# Altium footprint library CAPS.PcbLib: 166 footprints (part 5 of 11)
Each footprint in its own frame and in the unit in brackets; x right, y up, seen from the top. Pads: shape width x height; smd on the part's side, far side on the other; paste and mask are expansions set on the pad; w line width, h text height; cw(c..) or ccw(c..) is an arc to the next point about the centre after c.
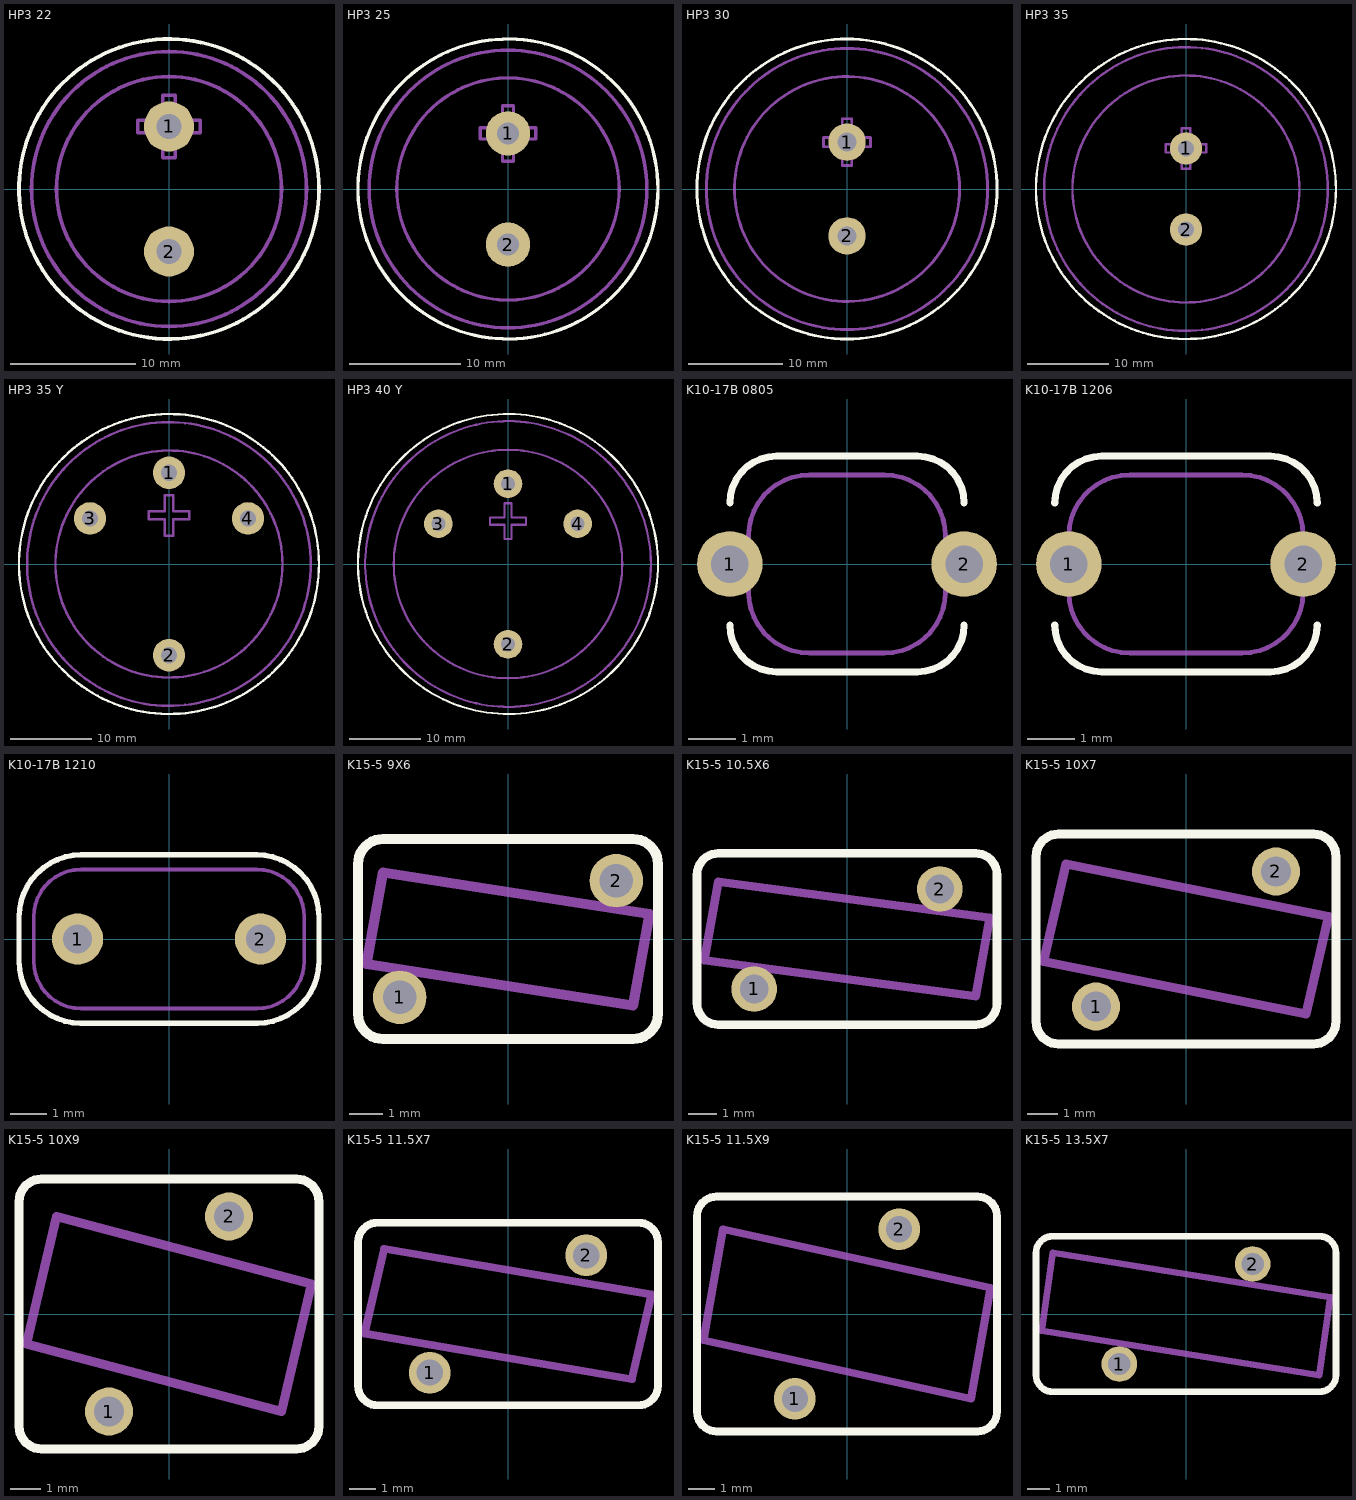
[diagram p4: the footprints below, top view; thin cyan lines are the x and y axes]

## HP3 22 [mm]
pads (2):
  round 4 hole 2: 1(0,5) 2(0,-5)
Top Overlay:
  circle w0.3: c0,0 r12
Mechanical 1:
  circle w0.3: c0,0 r9
  circle w0.3: c0,0 r11
  lines w0.3: -2.5,4.5 -0.5,4.5 -0.5,2.5 0.5,2.5 0.5,4.5 2.5,4.5 2.5,5.5 0.5,5.5 0.5,7.5 -0.5,7.5 -0.5,5.5 -2.5,5.5 -2.5,4.5

## HP3 25 [mm]
pads (2):
  round 4 hole 2: 1(0,5) 2(0,-5)
Top Overlay:
  circle w0.3: c0,0 r13.5
Mechanical 1:
  circle w0.3: c0,0 r10
  circle w0.3: c0,0 r12.5
  lines w0.3: -2.5,4.5 -0.5,4.5 -0.5,2.5 0.5,2.5 0.5,4.5 2.5,4.5 2.5,5.5 0.5,5.5 0.5,7.5 -0.5,7.5 -0.5,5.5 -2.5,5.5 -2.5,4.5

## HP3 30 [mm]
pads (2):
  round 4 hole 2: 1(0,5) 2(0,-5)
Top Overlay:
  circle w0.3: c0,0 r16
Mechanical 1:
  circle w0.3: c0,0 r15
  circle w0.3: c0,0 r12
  lines w0.3: -2.5,4.5 -0.5,4.5 -0.5,2.5 0.5,2.5 0.5,4.5 2.5,4.5 2.5,5.5 0.5,5.5 0.5,7.5 -0.5,7.5 -0.5,5.5 -2.5,5.5 -2.5,4.5

## HP3 35 [mm]
pads (2):
  round 4 hole 2: 1(0,5) 2(0,-5)
Top Overlay:
  circle w0.3: c0,0 r18.5
Mechanical 1:
  circle w0.3: c0,0 r17.5
  circle w0.3: c0,0 r14
  lines w0.3: -2.5,4.5 -0.5,4.5 -0.5,2.5 0.5,2.5 0.5,4.5 2.5,4.5 2.5,5.5 0.5,5.5 0.5,7.5 -0.5,7.5 -0.5,5.5 -2.5,5.5 -2.5,4.5

## HP3 35 Y [mm]
pads (4):
  round 4 hole 2: 1(0,11.25) 2(0,-11.25) 3(-9.743,5.625) 4(9.743,5.625)
Top Overlay:
  circle w0.3: c0,0 r18.5
Mechanical 1:
  circle w0.3: c0,0 r17.5
  circle w0.3: c0,0 r14
  lines w0.3: -2.5,5.5 -0.5,5.5 -0.5,3.5 0.5,3.5 0.5,5.5 2.5,5.5 2.5,6.5 0.5,6.5 0.5,8.5 -0.5,8.5 -0.5,6.5 -2.5,6.5 -2.5,5.5

## HP3 40 Y [mm]
pads (4):
  round 4 hole 2: 1(0,11.25) 2(0,-11.25) 3(-9.743,5.625) 4(9.743,5.625)
Top Overlay:
  circle w0.3: c0,0 r21
Mechanical 1:
  circle w0.3: c0,0 r16
  circle w0.3: c0,0 r20
  lines w0.3: -2.5,5.5 -0.5,5.5 -0.5,3.5 0.5,3.5 0.5,5.5 2.5,5.5 2.5,6.5 0.5,6.5 0.5,8.5 -0.5,8.5 -0.5,6.5 -2.5,6.5 -2.5,5.5

## K10-17B 0805 [mm]
height 5.5
pads (2):
  round 1.4 hole 0.8: 1(-2.5,0) 2(2.5,0)
Top Overlay:
  lines w0.15: -2.5,-1.3 ccw(c-1.5,-1.3) -1.5,-2.3 1.5,-2.3 ccw(c1.5,-1.3) 2.5,-1.3 ; -2.5,1.3 cw(c-1.5,1.3) -1.5,2.3 1.5,2.3 cw(c1.5,1.3) 2.5,1.3
Mechanical 1:
  lines w0.1: -2.1,-0.6 ccw(c-0.8,-0.6) -0.8,-1.9 0.8,-1.9 ccw(c0.8,-0.6) 2.1,-0.6 2.1,0.6 ccw(c0.8,0.6) 0.8,1.9 -0.8,1.9 ccw(c-0.8,0.6) -2.1,0.6 -2.1,-0.6

## K10-17B 1206 [mm]
height 6.5
pads (2):
  round 1.4 hole 0.8: 1(-2.5,0) 2(2.5,0)
Top Overlay:
  lines w0.15: -2.8,-1.3 ccw(c-1.8,-1.3) -1.8,-2.3 1.8,-2.3 ccw(c1.8,-1.3) 2.8,-1.3 ; -2.8,1.3 cw(c-1.8,1.3) -1.8,2.3 1.8,2.3 cw(c1.8,1.3) 2.8,1.3
Mechanical 1:
  lines w0.1: -2.5,-0.6 ccw(c-1.2,-0.6) -1.2,-1.9 1.2,-1.9 ccw(c1.2,-0.6) 2.5,-0.6 2.5,0.6 ccw(c1.2,0.6) 1.2,1.9 -1.2,1.9 ccw(c-1.2,0.6) -2.5,0.6 -2.5,-0.6

## K10-17B 1210 [mm]
height 7.5
pads (2):
  round 1.4 hole 0.8: 1(-2.5,0) 2(2.5,0)
Top Overlay:
  lines w0.15: -4.1,-0.607 ccw(c-2.407,-0.607) -2.407,-2.3 2.407,-2.3 ccw(c2.407,-0.607) 4.1,-0.607 4.1,0.593 ccw(c2.393,0.593) 2.393,2.3 -2.393,2.3 ccw(c-2.393,0.593) -4.1,0.593 -4.1,-0.607
Mechanical 1:
  lines w0.1: -3.7,-0.6 ccw(c-2.4,-0.6) -2.4,-1.9 2.4,-1.9 ccw(c2.4,-0.6) 3.7,-0.6 3.7,0.6 ccw(c2.4,0.6) 2.4,1.9 -2.4,1.9 ccw(c-2.4,0.6) -3.7,0.6 -3.7,-0.6

## K15-5 9X6 [mm]
pads (2):
  round 1.6 hole 1: 1(-3.25,-1.75) 2(3.25,1.75)
Top Overlay:
  lines w0.3: -4.5,-2.25 ccw(c-3.75,-2.25) -3.75,-3 3.75,-3 ccw(c3.75,-2.25) 4.5,-2.25 4.5,2.25 ccw(c3.75,2.25) 3.75,3 -3.75,3 ccw(c-3.75,2.25) -4.5,2.25 -4.5,-2.25
Mechanical 1:
  lines w0.3: -4.25,-0.75 -3.75,2 4.25,0.75 3.75,-2 -4.25,-0.75

## K15-5 10.5X6 [mm]
pads (2):
  round 1.6 hole 1: 1(-3.25,-1.75) 2(3.25,1.75)
Top Overlay:
  lines w0.3: -5.25,-2.25 ccw(c-4.5,-2.25) -4.5,-3 4.5,-3 ccw(c4.5,-2.25) 5.25,-2.25 5.25,2.25 ccw(c4.5,2.25) 4.5,3 -4.5,3 ccw(c-4.5,2.25) -5.25,2.25 -5.25,-2.25
Mechanical 1:
  lines w0.3: -5,-0.75 4.5,-2 5,0.75 -4.5,2 -5,-0.75

## K15-5 10X7 [mm]
pads (2):
  round 1.6 hole 1: 1(-3,-2.25) 2(3,2.25)
Top Overlay:
  lines w0.3: -5,-2.75 ccw(c-4.25,-2.75) -4.25,-3.5 4.25,-3.5 ccw(c4.25,-2.75) 5,-2.75 5,2.75 ccw(c4.25,2.75) 4.25,3.5 -4.25,3.5 ccw(c-4.25,2.75) -5,2.75 -5,-2.75
Mechanical 1:
  lines w0.3: -4.75,-0.75 4,-2.5 4.75,0.75 -4,2.5 -4.75,-0.75

## K15-5 10X9 [mm]
pads (2):
  round 1.6 hole 1: 1(-2,-3.25) 2(2,3.25)
Top Overlay:
  lines w0.3: -5,-3.75 ccw(c-4.25,-3.75) -4.25,-4.5 4.25,-4.5 ccw(c4.25,-3.75) 5,-3.75 5,3.75 ccw(c4.25,3.75) 4.25,4.5 -4.25,4.5 ccw(c-4.25,3.75) -5,3.75 -5,-3.75
Mechanical 1:
  lines w0.3: -4.75,-1 -3.75,3.25 4.75,1 3.75,-3.25 -4.75,-1

## K15-5 11.5X7 [mm]
pads (2):
  round 1.6 hole 1: 1(-3,-2.25) 2(3,2.25)
Top Overlay:
  lines w0.3: -5.75,-2.75 ccw(c-5,-2.75) -5,-3.5 5,-3.5 ccw(c5,-2.75) 5.75,-2.75 5.75,2.75 ccw(c5,2.75) 5,3.5 -5,3.5 ccw(c-5,2.75) -5.75,2.75 -5.75,-2.75
Mechanical 1:
  lines w0.3: -5.5,-0.75 4.75,-2.5 5.5,0.75 -4.75,2.5 -5.5,-0.75

## K15-5 11.5X9 [mm]
pads (2):
  round 1.6 hole 1: 1(-2,-3.25) 2(2,3.25)
Top Overlay:
  lines w0.3: -5.75,-3.75 ccw(c-5,-3.75) -5,-4.5 5,-4.5 ccw(c5,-3.75) 5.75,-3.75 5.75,3.75 ccw(c5,3.75) 5,4.5 -5,4.5 ccw(c-5,3.75) -5.75,3.75 -5.75,-3.75
Mechanical 1:
  lines w0.3: -5.5,-1 -4.75,3.25 5.5,1 4.75,-3.25 -5.5,-1

## K15-5 13.5X7 [mm]
pads (2):
  round 1.6 hole 1: 1(-3,-2.25) 2(3,2.25)
Top Overlay:
  lines w0.3: -6.75,-2.75 ccw(c-6,-2.75) -6,-3.5 6,-3.5 ccw(c6,-2.75) 6.75,-2.75 6.75,2.75 ccw(c6,2.75) 6,3.5 -6,3.5 ccw(c-6,2.75) -6.75,2.75 -6.75,-2.75
Mechanical 1:
  lines w0.3: -6.5,-0.75 6,-2.75 6.5,0.75 -6,2.75 -6.5,-0.75